# Altium schematic symbol library Rising Clamp System WR-TBL_10.00 mm.SchLib: 55 symbols
Pins are listed as number, name and electrical type; pins without a type are passive.

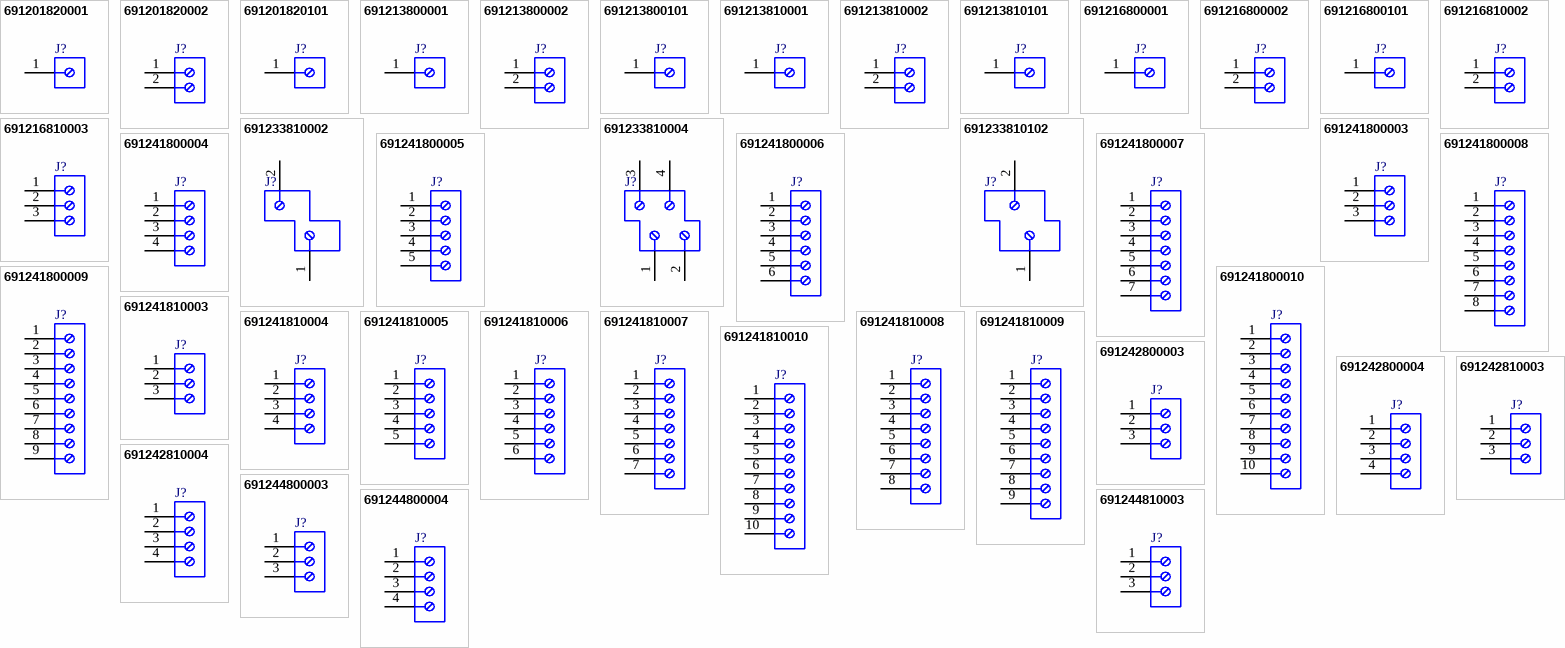
[diagram p0: symbols 691201820001 to 691244810003]

## 691201820001
designator J?
Serie 2018 - 10.00 mm 45deg Entry with Rising Cage Clamp WR-TBL, 1 pin; Part Number: 691201820001; Pin Number: 1; ComponentLink1Description: Manufacturer; ComponentLink1URL: http://www.we-online.de; ComponentLink2Description: Datasheet; ComponentLink2URL: http://katalog.we-online.de/em/datasheet/691201820001.pdf; Published Date: May 2018; Publisher: Wurth Elektronik; Pitch: 10.00 mm; Operating Temperature: -30 to 120 degC; Mounting Technology: THT; Packaging: Box
footprint 691201820001
pins: 1

## 691201820002
designator J?
Serie 2018 - 10.00 mm 45deg Entry with Rising Cage Clamp WR-TBL, 2 pin; Part Number: 691201820002; Pin Number: 2; ComponentLink1Description: Manufacturer; ComponentLink1URL: http://www.we-online.de; ComponentLink2Description: Datasheet; ComponentLink2URL: http://katalog.we-online.de/em/datasheet/691201820002.pdf; Published Date: May 2018; Publisher: Wurth Elektronik; Pitch: 10.00 mm; Operating Temperature: -30 to 120 degC; Mounting Technology: THT; Packaging: Box
footprint 691201820002
pins: 1, 2

## 691201820101
designator J?
Serie 2018 - 10.00 mm 45deg Entry with Rising Cage Clamp WR-TBL, 1 pin; Part Number: 691201820101; Pin Number: 1; ComponentLink1Description: Manufacturer; ComponentLink1URL: http://www.we-online.de; ComponentLink2Description: Datasheet; ComponentLink2URL: http://katalog.we-online.de/em/datasheet/691201820101.pdf; Published Date: May 2018; Publisher: Wurth Elektronik; Pitch: 10.00 mm; Operating Temperature: -30 to 120 degC; Mounting Technology: THT; Packaging: Box
footprint 691201820101
pins: 1

## 691213800001
designator J?
Serie 2138 - 10.00 mm Vertical Entry with Rising Cage Clamp WR-TBL, 1 pin; Part Number: 691213800001; Pin Number: 1; ComponentLink1Description: Manufacturer; ComponentLink1URL: http://www.we-online.de; ComponentLink2Description: Datasheet; ComponentLink2URL: http://katalog.we-online.de/em/datasheet/691213800001.pdf; Published Date: June 2018; Publisher: Wurth Elektronik; Pitch: 10.00 mm; Operating Temperature: -30 to 120 degC; Mounting Technology: THT; Packaging: Box
footprint 691213800001
pins: 1

## 691213800002
designator J?
Serie 2138 - 10.00 mm Vertical Entry with Rising Cage Clamp WR-TBL, 2 pin; Part Number: 691213800002; Pin Number: 2; ComponentLink1Description: Manufacturer; ComponentLink1URL: http://www.we-online.de; ComponentLink2Description: Datasheet; ComponentLink2URL: http://katalog.we-online.de/em/datasheet/691213800002.pdf; Published Date: June 2018; Publisher: Wurth Elektronik; Pitch: 10.00 mm; Operating Temperature: -30 to 120 degC; Mounting Technology: THT; Packaging: Box
footprint 691213800002
pins: 1, 2

## 691213800101
designator J?
Serie 2138 - 10.00 mm Vertical Entry with Rising Cage Clamp WR-TBL, 1 pin; Part Number: 691213800101; Pin Number: 1; ComponentLink1Description: Manufacturer; ComponentLink1URL: http://www.we-online.de; ComponentLink2Description: Datasheet; ComponentLink2URL: http://katalog.we-online.de/em/datasheet/691213800101.pdf; Published Date: June 2018; Publisher: Wurth Elektronik; Pitch: 10.00 mm; Operating Temperature: -30 to 120 degC; Mounting Technology: THT; Packaging: Box
footprint 691213800101
pins: 1

## 691213810001
designator J?
Serie 2138 - 10.00 mm Horizontal Entry with Rising Cage Clamp WR-TBL, 1 pin; Part Number: 691213810001; Pin Number: 1; ComponentLink1Description: Manufacturer; ComponentLink1URL: http://www.we-online.de; ComponentLink2Description: Datasheet; ComponentLink2URL: http://katalog.we-online.de/em/datasheet/691213810001.pdf; Published Date: June 2018; Publisher: Wurth Elektronik; Pitch: 10.00 mm; Operating Temperature: -30 to 120 degC; Mounting Technology: THT; Packaging: Box
footprint 691213810001
pins: 1

## 691213810002
designator J?
Serie 2138 - 10.00 mm Horizontal Entry with Rising Cage Clamp WR-TBL, 2 pin; Part Number: 691213810002; Pin Number: 2; ComponentLink1Description: Manufacturer; ComponentLink1URL: http://www.we-online.de; ComponentLink2Description: Datasheet; ComponentLink2URL: http://katalog.we-online.de/em/datasheet/691213810002.pdf; Published Date: June 2018; Publisher: Wurth Elektronik; Pitch: 10.00 mm; Operating Temperature: -30 to 120 degC; Mounting Technology: THT; Packaging: Box
footprint 691213810002
pins: 1, 2

## 691213810101
designator J?
Serie 2138 - 10.00 mm Horizontal Entry with Rising Cage Clamp WR-TBL, 1 pin; Part Number: 691213810101; Pin Number: 1; ComponentLink1Description: Manufacturer; ComponentLink1URL: http://www.we-online.de; ComponentLink2Description: Datasheet; ComponentLink2URL: http://katalog.we-online.de/em/datasheet/691213810101.pdf; Published Date: June 2018; Publisher: Wurth Elektronik; Pitch: 10.00 mm; Operating Temperature: -30 to 120 degC; Mounting Technology: THT; Packaging: Box
footprint 691213810101
pins: 1

## 691216800001
designator J?
Serie 2168 - 10.00 mm Vertical Entry with Rising Cage Clamp WR-TBL, 1 pin; Part Number: 691216800001; Pin Number: 1; ComponentLink1Description: Manufacturer; ComponentLink1URL: http://www.we-online.de; ComponentLink2Description: Datasheet; ComponentLink2URL: http://katalog.we-online.de/em/datasheet/691216800001.pdf; Published Date: June 2018; Publisher: Wurth Elektronik; Pitch: 10.00 mm; Operating Temperature: -30 to 120 degC; Mounting Technology: THT; Packaging: Box
footprint 691216800001
pins: 1

## 691216800002
designator J?
Serie 2168 - 10.00 mm Vertical Entry with Rising Cage Clamp WR-TBL, 2 pin; Part Number: 691216800002; Pin Number: 2; ComponentLink1Description: Manufacturer; ComponentLink1URL: http://www.we-online.de; ComponentLink2Description: Datasheet; ComponentLink2URL: http://katalog.we-online.de/em/datasheet/691216800002.pdf; Published Date: June 2018; Publisher: Wurth Elektronik; Pitch: 10.00 mm; Operating Temperature: -30 to 120 degC; Mounting Technology: THT; Packaging: Box
footprint 691216800002
pins: 1, 2

## 691216800101
designator J?
Serie 2168 - 10.00 mm Vertical Entry with Rising Cage Clamp WR-TBL, 1 pin; Part Number: 691216800101; Pin Number: 1; ComponentLink1Description: Manufacturer; ComponentLink1URL: http://www.we-online.de; ComponentLink2Description: Datasheet; ComponentLink2URL: http://katalog.we-online.de/em/datasheet/691216800101.pdf; Published Date: June 2018; Publisher: Wurth Elektronik; Pitch: 10.00 mm; Operating Temperature: -30 to 120 degC; Mounting Technology: THT; Packaging: Box
footprint 691216800101
pins: 1

## 691216810002
designator J?
Serie 2168 - 10.00 mm Horizontal Entry Modular with Rising Cage Clamp WR-TBL, 2 pin; Part Number: 691216810002; Pin Number: 2; ComponentLink1Description: Manufacturer; ComponentLink1URL: http://www.we-online.de; ComponentLink2Description: Datasheet; ComponentLink2URL: http://katalog.we-online.de/em/datasheet/6912168100XX.pdf; Published Date: June 2018; Publisher: Wurth Elektronik; Pitch: 10.00 mm; Operating Temperature: -30 to 120 degC; Mounting Technology: THT; Packaging: Box
footprint 691216810002
pins: 1, 2

## 691216810003
designator J?
Serie 2168 - 10.00 mm Horizontal Entry Modular with Rising Cage Clamp WR-TBL, 3 pin; Part Number: 691216810003; Pin Number: 3; ComponentLink1Description: Manufacturer; ComponentLink1URL: http://www.we-online.de; ComponentLink2Description: Datasheet; ComponentLink2URL: http://katalog.we-online.de/em/datasheet/6912168100XX.pdf; Published Date: June 2018; Publisher: Wurth Elektronik; Pitch: 10.00 mm; Operating Temperature: -30 to 120 degC; Mounting Technology: THT; Packaging: Box
footprint 691216810003
pins: 1, 2, 3

## 691233810002
designator J?
Serie 2338 - 10.00 mm Horizontal Entry with Rising Cage Clamp WR-TBL, 2 pin; Part Number: 691233810002; Pin Number: 2; ComponentLink1Description: Manufacturer; ComponentLink1URL: http://www.we-online.de; ComponentLink2Description: Datasheet; ComponentLink2URL: http://katalog.we-online.de/em/datasheet/6912338100xx.pdf; Published Date: June 2018; Publisher: Wurth Elektronik; Pitch: 10.00 mm; Operating Temperature: -30 to 120 degC; Mounting Technology: THT; Packaging: Box
footprint 691233810002
pins: 1, 2

## 691233810004
designator J?
Serie 2338 - 10.00 mm Horizontal Entry with Rising Cage Clamp WR-TBL, 4 pin; Part Number: 691233810004; Pin Number: 4; ComponentLink1Description: Manufacturer; ComponentLink1URL: http://www.we-online.de; ComponentLink2Description: Datasheet; ComponentLink2URL: http://katalog.we-online.de/em/datasheet/6912338100xx.pdf; Published Date: June 2018; Publisher: Wurth Elektronik; Pitch: 10.00 mm; Operating Temperature: -30 to 120 degC; Mounting Technology: THT; Packaging: Box
footprint 691233810004
pins: 1, 2, 3, 4

## 691233810102
designator J?
Serie 2338 - 10.00 mm Horizontal Entry with Rising Cage Clamp WR-TBL, 2 pin; Part Number: 691233810102; Pin Number: 2; ComponentLink1Description: Manufacturer; ComponentLink1URL: http://www.we-online.de; ComponentLink2Description: Datasheet; ComponentLink2URL: http://katalog.we-online.de/em/datasheet/6912338100xx.pdf; Published Date: June 2018; Publisher: Wurth Elektronik; Pitch: 10.00 mm; Operating Temperature: -30 to 120 degC; Mounting Technology: THT; Packaging: Box
footprint 691233810102
pins: 1, 2

## 691241800003
designator J?
Serie 2418 - 10.00 mm Vertical Entry with Rising Cage Clamp WR-TBL, 3 pin; Part Number: 691241800003; Pin Number: 3; ComponentLink1Description: Manufacturer; ComponentLink1URL: http://www.we-online.de; ComponentLink2Description: Datasheet; ComponentLink2URL: http://katalog.we-online.de/em/datasheet/691241800003.pdf; Published Date: June 2018; Publisher: Wurth Elektronik; Pitch: 10.00 mm; Operating Temperature: -30 to 120 degC; Mounting Technology: THT; Packaging: Box
footprint 691241800003
pins: 1, 2, 3

## 691241800004
designator J?
Serie 2418 - 10.00 mm Vertical Entry with Rising Cage Clamp WR-TBL, 4 pin; Part Number: 691241800004; Pin Number: 4; ComponentLink1Description: Manufacturer; ComponentLink1URL: http://www.we-online.de; ComponentLink2Description: Datasheet; ComponentLink2URL: http://katalog.we-online.de/em/datasheet/691241800004.pdf; Published Date: June 2018; Publisher: Wurth Elektronik; Pitch: 10.00 mm; Operating Temperature: -30 to 120 degC; Mounting Technology: THT; Packaging: Box
footprint 691241800004
pins: 1, 2, 3, 4

## 691241800005
designator J?
Serie 2418 - 10.00 mm Vertical Entry with Rising Cage Clamp WR-TBL, 5 pin; Part Number: 691241800005; Pin Number: 5; ComponentLink1Description: Manufacturer; ComponentLink1URL: http://www.we-online.de; ComponentLink2Description: Datasheet; ComponentLink2URL: http://katalog.we-online.de/em/datasheet/691241800005.pdf; Published Date: June 2018; Publisher: Wurth Elektronik; Pitch: 10.00 mm; Operating Temperature: -30 to 120 degC; Mounting Technology: THT; Packaging: Box
footprint 691241800005
pins: 1, 2, 3, 4, 5

## 691241800006
designator J?
Serie 2418 - 10.00 mm Vertical Entry with Rising Cage Clamp WR-TBL, 6 pin; Part Number: 691241800006; Pin Number: 6; ComponentLink1Description: Manufacturer; ComponentLink1URL: http://www.we-online.de; ComponentLink2Description: Datasheet; ComponentLink2URL: http://katalog.we-online.de/em/datasheet/691241800006.pdf; Published Date: June 2018; Publisher: Wurth Elektronik; Pitch: 10.00 mm; Operating Temperature: -30 to 120 degC; Mounting Technology: THT; Packaging: Box
footprint 691241800006
pins: 1, 2, 3, 4, 5, 6

## 691241800007
designator J?
Serie 2418 - 10.00 mm Vertical Entry with Rising Cage Clamp WR-TBL, 7 pin; Part Number: 691241800007; Pin Number: 7; ComponentLink1Description: Manufacturer; ComponentLink1URL: http://www.we-online.de; ComponentLink2Description: Datasheet; ComponentLink2URL: http://katalog.we-online.de/em/datasheet/691241800007.pdf; Published Date: June 2018; Publisher: Wurth Elektronik; Pitch: 10.00 mm; Operating Temperature: -30 to 120 degC; Mounting Technology: THT; Packaging: Box
footprint 691241800007
pins: 1, 2, 3, 4, 5, 6, 7

## 691241800008
designator J?
Serie 2418 - 10.00 mm Vertical Entry with Rising Cage Clamp WR-TBL, 8 pin; Part Number: 691241800008; Pin Number: 8; ComponentLink1Description: Manufacturer; ComponentLink1URL: http://www.we-online.de; ComponentLink2Description: Datasheet; ComponentLink2URL: http://katalog.we-online.de/em/datasheet/691241800008.pdf; Published Date: June 2018; Publisher: Wurth Elektronik; Pitch: 10.00 mm; Operating Temperature: -30 to 120 degC; Mounting Technology: THT; Packaging: Box
footprint 691241800008
pins: 1, 2, 3, 4, 5, 6, 7, 8

## 691241800009
designator J?
Serie 2418 - 10.00 mm Vertical Entry with Rising Cage Clamp WR-TBL, 9 pin; Part Number: 691241800009; Pin Number: 9; ComponentLink1Description: Manufacturer; ComponentLink1URL: http://www.we-online.de; ComponentLink2Description: Datasheet; ComponentLink2URL: http://katalog.we-online.de/em/datasheet/691241800009.pdf; Published Date: June 2018; Publisher: Wurth Elektronik; Pitch: 10.00 mm; Operating Temperature: -30 to 120 degC; Mounting Technology: THT; Packaging: Box
footprint 691241800009
pins: 1, 2, 3, 4, 5, 6, 7, 8, 9

## 691241800010
designator J?
Serie 2418 - 10.00 mm Vertical Entry with Rising Cage Clamp WR-TBL, 10 pin; Part Number: 691241800010; Pin Number: 10; ComponentLink1Description: Manufacturer; ComponentLink1URL: http://www.we-online.de; ComponentLink2Description: Datasheet; ComponentLink2URL: http://katalog.we-online.de/em/datasheet/691241800010.pdf; Published Date: June 2018; Publisher: Wurth Elektronik; Pitch: 10.00 mm; Operating Temperature: -30 to 120 degC; Mounting Technology: THT; Packaging: Box
footprint 691241800010
pins: 1, 2, 3, 4, 5, 6, 7, 8, 9, 10

## 691241810003
designator J?
Serie 2418 - 10.00 mm Horizontal Entry with Rising Cage Clamp WR-TBL, 3 pin; Part Number: 691241810003; Pin Number: 3; ComponentLink1Description: Manufacturer; ComponentLink1URL: http://www.we-online.de; ComponentLink2Description: Datasheet; ComponentLink2URL: http://katalog.we-online.de/em/datasheet/691241810003.pdf; Published Date: June 2018; Publisher: Wurth Elektronik; Pitch: 10.00 mm; Operating Temperature: -30 to 120 degC; Mounting Technology: THT; Packaging: Box
footprint 691241810003
pins: 1, 2, 3

## 691241810004
designator J?
Serie 2418 - 10.00 mm Horizontal Entry with Rising Cage Clamp WR-TBL, 4 pin; Part Number: 691241810004; Pin Number: 4; ComponentLink1Description: Manufacturer; ComponentLink1URL: http://www.we-online.de; ComponentLink2Description: Datasheet; ComponentLink2URL: http://katalog.we-online.de/em/datasheet/691241810004.pdf; Published Date: June 2018; Publisher: Wurth Elektronik; Pitch: 10.00 mm; Operating Temperature: -30 to 120 degC; Mounting Technology: THT; Packaging: Box
footprint 691241810004
pins: 1, 2, 3, 4

## 691241810005
designator J?
Serie 2418 - 10.00 mm Horizontal Entry with Rising Cage Clamp WR-TBL, 5 pin; Part Number: 691241810005; Pin Number: 5; ComponentLink1Description: Manufacturer; ComponentLink1URL: http://www.we-online.de; ComponentLink2Description: Datasheet; ComponentLink2URL: http://katalog.we-online.de/em/datasheet/691241810005.pdf; Published Date: June 2018; Publisher: Wurth Elektronik; Pitch: 10.00 mm; Operating Temperature: -30 to 120 degC; Mounting Technology: THT; Packaging: Box
footprint 691241810005
pins: 1, 2, 3, 4, 5

## 691241810006
designator J?
Serie 2418 - 10.00 mm Horizontal Entry with Rising Cage Clamp WR-TBL, 6 pin; Part Number: 691241810006; Pin Number: 6; ComponentLink1Description: Manufacturer; ComponentLink1URL: http://www.we-online.de; ComponentLink2Description: Datasheet; ComponentLink2URL: http://katalog.we-online.de/em/datasheet/691241810006.pdf; Published Date: June 2018; Publisher: Wurth Elektronik; Pitch: 10.00 mm; Operating Temperature: -30 to 120 degC; Mounting Technology: THT; Packaging: Box
footprint 691241810006
pins: 1, 2, 3, 4, 5, 6

## 691241810007
designator J?
Serie 2418 - 10.00 mm Horizontal Entry with Rising Cage Clamp WR-TBL, 7 pin; Part Number: 691241810007; Pin Number: 7; ComponentLink1Description: Manufacturer; ComponentLink1URL: http://www.we-online.de; ComponentLink2Description: Datasheet; ComponentLink2URL: http://katalog.we-online.de/em/datasheet/691241810007.pdf; Published Date: June 2018; Publisher: Wurth Elektronik; Pitch: 10.00 mm; Operating Temperature: -30 to 120 degC; Mounting Technology: THT; Packaging: Box
footprint 691241810007
pins: 1, 2, 3, 4, 5, 6, 7

## 691241810008
designator J?
Serie 2418 - 10.00 mm Horizontal Entry with Rising Cage Clamp WR-TBL, 8 pin; Part Number: 691241810008; Pin Number: 8; ComponentLink1Description: Manufacturer; ComponentLink1URL: http://www.we-online.de; ComponentLink2Description: Datasheet; ComponentLink2URL: http://katalog.we-online.de/em/datasheet/691241810008.pdf; Published Date: June 2018; Publisher: Wurth Elektronik; Pitch: 10.00 mm; Operating Temperature: -30 to 120 degC; Mounting Technology: THT; Packaging: Box
footprint 691241810008
pins: 1, 2, 3, 4, 5, 6, 7, 8

## 691241810009
designator J?
Serie 2418 - 10.00 mm Horizontal Entry with Rising Cage Clamp WR-TBL, 9 pin; Part Number: 691241810009; Pin Number: 9; ComponentLink1Description: Manufacturer; ComponentLink1URL: http://www.we-online.de; ComponentLink2Description: Datasheet; ComponentLink2URL: http://katalog.we-online.de/em/datasheet/691241810009.pdf; Published Date: June 2018; Publisher: Wurth Elektronik; Pitch: 10.00 mm; Operating Temperature: -30 to 120 degC; Mounting Technology: THT; Packaging: Box
footprint 691241810009
pins: 1, 2, 3, 4, 5, 6, 7, 8, 9

## 691241810010
designator J?
Serie 2418 - 10.00 mm Horizontal Entry with Rising Cage Clamp WR-TBL, 10 pin; Part Number: 691241810010; Pin Number: 10; ComponentLink1Description: Manufacturer; ComponentLink1URL: http://www.we-online.de; ComponentLink2Description: Datasheet; ComponentLink2URL: http://katalog.we-online.de/em/datasheet/691241810010.pdf; Published Date: June 2018; Publisher: Wurth Elektronik; Pitch: 10.00 mm; Operating Temperature: -30 to 120 degC; Mounting Technology: THT; Packaging: Box
footprint 691241810010
pins: 1, 2, 3, 4, 5, 6, 7, 8, 9, 10

## 691242800003
designator J?
Serie 2428 - 10.00 mm Vertical Entry with Rising Cage Clamp WR-TBL, 3 pin; Part Number: 691242800003; Pin Number: 3; ComponentLink1Description: Manufacturer; ComponentLink1URL: http://www.we-online.de; ComponentLink2Description: Datasheet; ComponentLink2URL: http://katalog.we-online.de/em/datasheet/6912428000xx.pdf; Published Date: June 2018; Publisher: Wurth Elektronik; Pitch: 10.00 mm; Operating Temperature: -30 to 120 degC; Mounting Technology: THT; Packaging: Box
footprint 691242800003
pins: 1, 2, 3

## 691242800004
designator J?
Serie 2428 - 10.00 mm Vertical Entry with Rising Cage Clamp WR-TBL, 4 pin; Part Number: 691242800004; Pin Number: 4; ComponentLink1Description: Manufacturer; ComponentLink1URL: http://www.we-online.de; ComponentLink2Description: Datasheet; ComponentLink2URL: http://katalog.we-online.de/em/datasheet/6912428000xx.pdf; Published Date: June 2018; Publisher: Wurth Elektronik; Pitch: 10.00 mm; Operating Temperature: -30 to 120 degC; Mounting Technology: THT; Packaging: Box
footprint 691242800004
pins: 1, 2, 3, 4

## 691242810003
designator J?
Serie 2428 - 10.00 mm Horizontal Entry Modular with Rising Clamp WR-TBL, 3 pin; Part Number: 691242810003; Pin Number: 3; ComponentLink1Description: Manufacturer; ComponentLink1URL: http://www.we-online.de; ComponentLink2Description: Datasheet; ComponentLink2URL: http://katalog.we-online.de/em/datasheet/6912428100xx.pdf; Published Date: June 2018; Publisher: Wurth Elektronik; Pitch: 10.00 mm; Operating Temperature: -30 to 120 degC; Mounting Technology: THT; Packaging: Box
footprint 691242810003
pins: 1, 2, 3

## 691242810004
designator J?
Serie 2428 - 10.00 mm Horizontal Entry Modular with Rising Clamp WR-TBL, 4 pin; Part Number: 691242810004; Pin Number: 4; ComponentLink1Description: Manufacturer; ComponentLink1URL: http://www.we-online.de; ComponentLink2Description: Datasheet; ComponentLink2URL: http://katalog.we-online.de/em/datasheet/6912428100xx.pdf; Published Date: June 2018; Publisher: Wurth Elektronik; Pitch: 10.00 mm; Operating Temperature: -30 to 120 degC; Mounting Technology: THT; Packaging: Box
footprint 691242810004
pins: 1, 2, 3, 4

## 691244800003
designator J?
Serie 2448 - 10.00 mm Vertical Entry Modular with Rising Clamp WR-TBL, 3 pin; Part Number: 691244800003; Pin Number: 3; ComponentLink1Description: Manufacturer; ComponentLink1URL: http://www.we-online.de; ComponentLink2Description: Datasheet; ComponentLink2URL: http://katalog.we-online.de/em/datasheet/6912448000xx.pdf; Published Date: June 2018; Publisher: Wurth Elektronik; Pitch: 10.00 mm; Operating Temperature: -30 to 120 degC; Mounting Technology: THT; Packaging: Box
footprint 691244800003
pins: 1, 2, 3

## 691244800004
designator J?
Serie 2448 - 10.00 mm Vertical Entry Modular with Rising Clamp WR-TBL, 4 pin; Part Number: 691244800004; Pin Number: 4; ComponentLink1Description: Manufacturer; ComponentLink1URL: http://www.we-online.de; ComponentLink2Description: Datasheet; ComponentLink2URL: http://katalog.we-online.de/em/datasheet/6912448000xx.pdf; Published Date: June 2018; Publisher: Wurth Elektronik; Pitch: 10.00 mm; Operating Temperature: -30 to 120 degC; Mounting Technology: THT; Packaging: Box
footprint 691244800004
pins: 1, 2, 3, 4

## 691244810003
designator J?
Serie 2448 - 10.00 mm Horizontal Entry Modular with Rising Cage Clamp WR-TBL, 3 pin; Part Number: 691244810003; Pin Number: 3; ComponentLink1Description: Manufacturer; ComponentLink1URL: http://www.we-online.de; ComponentLink2Description: Datasheet; ComponentLink2URL: http://katalog.we-online.de/em/datasheet/6912448100XX.pdf; Published Date: June 2018; Publisher: Wurth Elektronik; Pitch: 10.00 mm; Operating Temperature: -30 to 120 degC; Mounting Technology: THT; Packaging: Box
footprint 691244810003
pins: 1, 2, 3

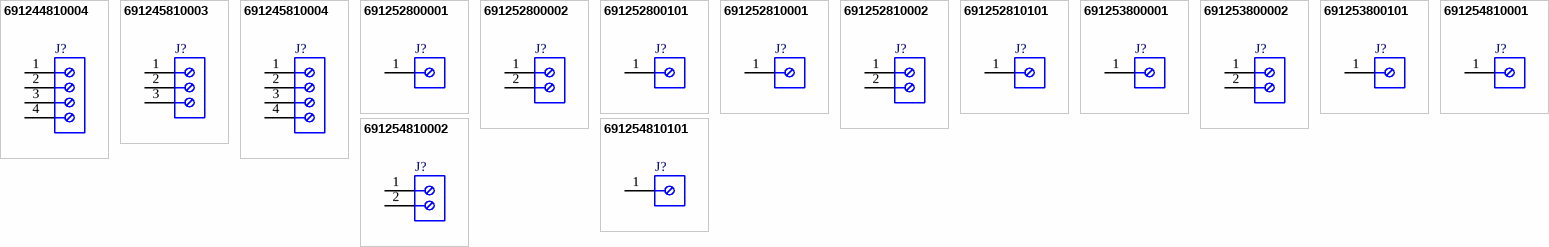
[diagram p1: symbols 691244810004 to 691254810101]

## 691244810004
designator J?
Serie 2448 - 10.00 mm Horizontal Entry Modular with Rising Cage Clamp WR-TBL, 4 pin; Part Number: 691244810004; Pin Number: 4; ComponentLink1Description: Manufacturer; ComponentLink1URL: http://www.we-online.de; ComponentLink2Description: Datasheet; ComponentLink2URL: http://katalog.we-online.de/em/datasheet/6912448100XX.pdf; Published Date: June 2018; Publisher: Wurth Elektronik; Pitch: 10.00 mm; Operating Temperature: -30 to 120 degC; Mounting Technology: THT; Packaging: Box
footprint 691244810004
pins: 1, 2, 3, 4

## 691245810003
designator J?
Serie 2458 - 10.00 mm Horizontal Entry with Rising Cage Clamp WR-TBL, 3 pin; Part Number: 691245810003; Pin Number: 3; ComponentLink1Description: Manufacturer; ComponentLink1URL: http://www.we-online.de; ComponentLink2Description: Datasheet; ComponentLink2URL: http://katalog.we-online.de/em/datasheet/6912458100xx.pdf; Published Date: June 2018; Publisher: Wurth Elektronik; Pitch: 10.00 mm; Operating Temperature: -30 to 120 degC; Mounting Technology: THT; Packaging: Box
footprint 691245810003
pins: 1, 2, 3

## 691245810004
designator J?
Serie 2458 - 10.00 mm Horizontal Entry with Rising Cage Clamp WR-TBL, 4 pin; Part Number: 691245810004; Pin Number: 4; ComponentLink1Description: Manufacturer; ComponentLink1URL: http://www.we-online.de; ComponentLink2Description: Datasheet; ComponentLink2URL: http://katalog.we-online.de/em/datasheet/6912458100xx.pdf; Published Date: June 2018; Publisher: Wurth Elektronik; Pitch: 10.00 mm; Operating Temperature: -30 to 120 degC; Mounting Technology: THT; Packaging: Box
footprint 691245810004
pins: 1, 2, 3, 4

## 691252800001
designator J?
Serie 2528 - 10.00 mm Vertical Entry Modular with Rising Cage Clamp WR-TBL, 1 pin; Part Number: 691252800001; Pin Number: 1; ComponentLink1Description: Manufacturer; ComponentLink1URL: http://www.we-online.de; ComponentLink2Description: Datasheet; ComponentLink2URL: http://katalog.we-online.de/em/datasheet/6912528000xx.pdf; Published Date: June 2018; Publisher: Wurth Elektronik; Pitch: 10.00 mm; Operating Temperature: -30 to 120 degC; Mounting Technology: THT; Packaging: Box
footprint 691252800001
pins: 1

## 691252800002
designator J?
Serie 2528 - 10.00 mm Vertical Entry Modular with Rising Cage Clamp WR-TBL, 2 pin; Part Number: 691252800002; Pin Number: 2; ComponentLink1Description: Manufacturer; ComponentLink1URL: http://www.we-online.de; ComponentLink2Description: Datasheet; ComponentLink2URL: http://katalog.we-online.de/em/datasheet/6912528000xx.pdf; Published Date: June 2018; Publisher: Wurth Elektronik; Pitch: 10.00 mm; Operating Temperature: -30 to 120 degC; Mounting Technology: THT; Packaging: Box
footprint 691252800002
pins: 1, 2

## 691252800101
designator J?
Serie 2528 - 10.00 mm Vertical Entry Modular with Rising Cage Clamp WR-TBL, 1 pin; Part Number: 691252800101; Pin Number: 1; ComponentLink1Description: Manufacturer; ComponentLink1URL: http://www.we-online.de; ComponentLink2Description: Datasheet; ComponentLink2URL: http://katalog.we-online.de/em/datasheet/6912528000xx.pdf; Published Date: June 2018; Publisher: Wurth Elektronik; Pitch: 10.00 mm; Operating Temperature: -30 to 120 degC; Mounting Technology: THT; Packaging: Box
footprint 691252800101
pins: 1

## 691252810001
designator J?
Serie 2528 - 10.00 mm Horizontal Entry Modular with Rising Cage Clamp WR-TBL, 1 pin; Part Number: 691252810001; Pin Number: 1; ComponentLink1Description: Manufacturer; ComponentLink1URL: http://www.we-online.de; ComponentLink2Description: Datasheet; ComponentLink2URL: http://katalog.we-online.de/em/datasheet/6912528100xx.pdf; Published Date: June 2018; Publisher: Wurth Elektronik; Pitch: 10.00 mm; Operating Temperature: -30 to 120 degC; Mounting Technology: THT; Packaging: Box
footprint 691252810001
pins: 1

## 691252810002
designator J?
Serie 2528 - 10.00 mm Horizontal Entry Modular with Rising Cage Clamp WR-TBL, 2 pin; Part Number: 691252810002; Pin Number: 2; ComponentLink1Description: Manufacturer; ComponentLink1URL: http://www.we-online.de; ComponentLink2Description: Datasheet; ComponentLink2URL: http://katalog.we-online.de/em/datasheet/6912528100xx.pdf; Published Date: June 2018; Publisher: Wurth Elektronik; Pitch: 10.00 mm; Operating Temperature: -30 to 120 degC; Mounting Technology: THT; Packaging: Box
footprint 691252810002
pins: 1, 2

## 691252810101
designator J?
Serie 2528 - 10.00 mm Horizontal Entry Modular with Rising Cage Clamp WR-TBL, 1 pin; Part Number: 691252810101; Pin Number: 1; ComponentLink1Description: Manufacturer; ComponentLink1URL: http://www.we-online.de; ComponentLink2Description: Datasheet; ComponentLink2URL: http://katalog.we-online.de/em/datasheet/6912528100xx.pdf; Published Date: June 2018; Publisher: Wurth Elektronik; Pitch: 10.00 mm; Operating Temperature: -30 to 120 degC; Mounting Technology: THT; Packaging: Box
footprint 691252810101
pins: 1

## 691253800001
designator J?
Serie 2538 - 10.00 mm Vertical Entry Modular with Rising Clamp WR-TBL, 1 pin; Part Number: 691253800001; Pin Number: 1; ComponentLink1Description: Manufacturer; ComponentLink1URL: http://www.we-online.de; ComponentLink2Description: Datasheet; ComponentLink2URL: http://katalog.we-online.de/em/datasheet/6912538000xx.pdf; Published Date: June 2018; Publisher: Wurth Elektronik; Pitch: 10.00 mm; Operating Temperature: -30 to 120 degC; Mounting Technology: THT; Packaging: Box
footprint 691253800001
pins: 1

## 691253800002
designator J?
Serie 2538 - 10.00 mm Vertical Entry Modular with Rising Clamp WR-TBL, 2 pin; Part Number: 691253800002; Pin Number: 2; ComponentLink1Description: Manufacturer; ComponentLink1URL: http://www.we-online.de; ComponentLink2Description: Datasheet; ComponentLink2URL: http://katalog.we-online.de/em/datasheet/6912538000xx.pdf; Published Date: June 2018; Publisher: Wurth Elektronik; Pitch: 10.00 mm; Operating Temperature: -30 to 120 degC; Mounting Technology: THT; Packaging: Box
footprint 691253800002
pins: 1, 2

## 691253800101
designator J?
Serie 2538 - 10.00 mm Vertical Entry Modular with Rising Clamp WR-TBL, 1 pin; Part Number: 691253800101; Pin Number: 1; ComponentLink1Description: Manufacturer; ComponentLink1URL: http://www.we-online.de; ComponentLink2Description: Datasheet; ComponentLink2URL: http://katalog.we-online.de/em/datasheet/6912538000xx.pdf; Published Date: June 2018; Publisher: Wurth Elektronik; Pitch: 10.00 mm; Operating Temperature: -30 to 120 degC; Mounting Technology: THT; Packaging: Box
footprint 691253800101
pins: 1

## 691254810001
designator J?
Serie 2548 - 10.00 mm Horizontal Entry with Rising Cage Clamp WR-TBL, 1 pin; Part Number: 691254810001; Pin Number: 1; ComponentLink1Description: Manufacturer; ComponentLink1URL: http://www.we-online.de; ComponentLink2Description: Datasheet; ComponentLink2URL: http://katalog.we-online.de/em/datasheet/6912548100xx.pdf; Published Date: June 2018; Publisher: Wurth Elektronik; Pitch: 10.00 mm; Operating Temperature: -30 to 120 degC; Mounting Technology: THT; Packaging: Box
footprint 691254810001
pins: 1

## 691254810002
designator J?
Serie 2548 - 10.00 mm Horizontal Entry with Rising Cage Clamp WR-TBL, 2 pin; Part Number: 691254810002; Pin Number: 2; ComponentLink1Description: Manufacturer; ComponentLink1URL: http://www.we-online.de; ComponentLink2Description: Datasheet; ComponentLink2URL: http://katalog.we-online.de/em/datasheet/6912548100xx.pdf; Published Date: June 2018; Publisher: Wurth Elektronik; Pitch: 10.00 mm; Operating Temperature: -30 to 120 degC; Mounting Technology: THT; Packaging: Box
footprint 691254810002
pins: 1, 2

## 691254810101
designator J?
Serie 2548 - 10.00 mm Horizontal Entry with Rising Cage Clamp WR-TBL, 1 pin; Part Number: 691254810101; Pin Number: 1; ComponentLink1Description: Manufacturer; ComponentLink1URL: http://www.we-online.de; ComponentLink2Description: Datasheet; ComponentLink2URL: http://katalog.we-online.de/em/datasheet/6912548100xx.pdf; Published Date: June 2018; Publisher: Wurth Elektronik; Pitch: 10.00 mm; Operating Temperature: -30 to 120 degC; Mounting Technology: THT; Packaging: Box
footprint 691254810101
pins: 1